# EAGLE library part LPC2468 (library motorController)
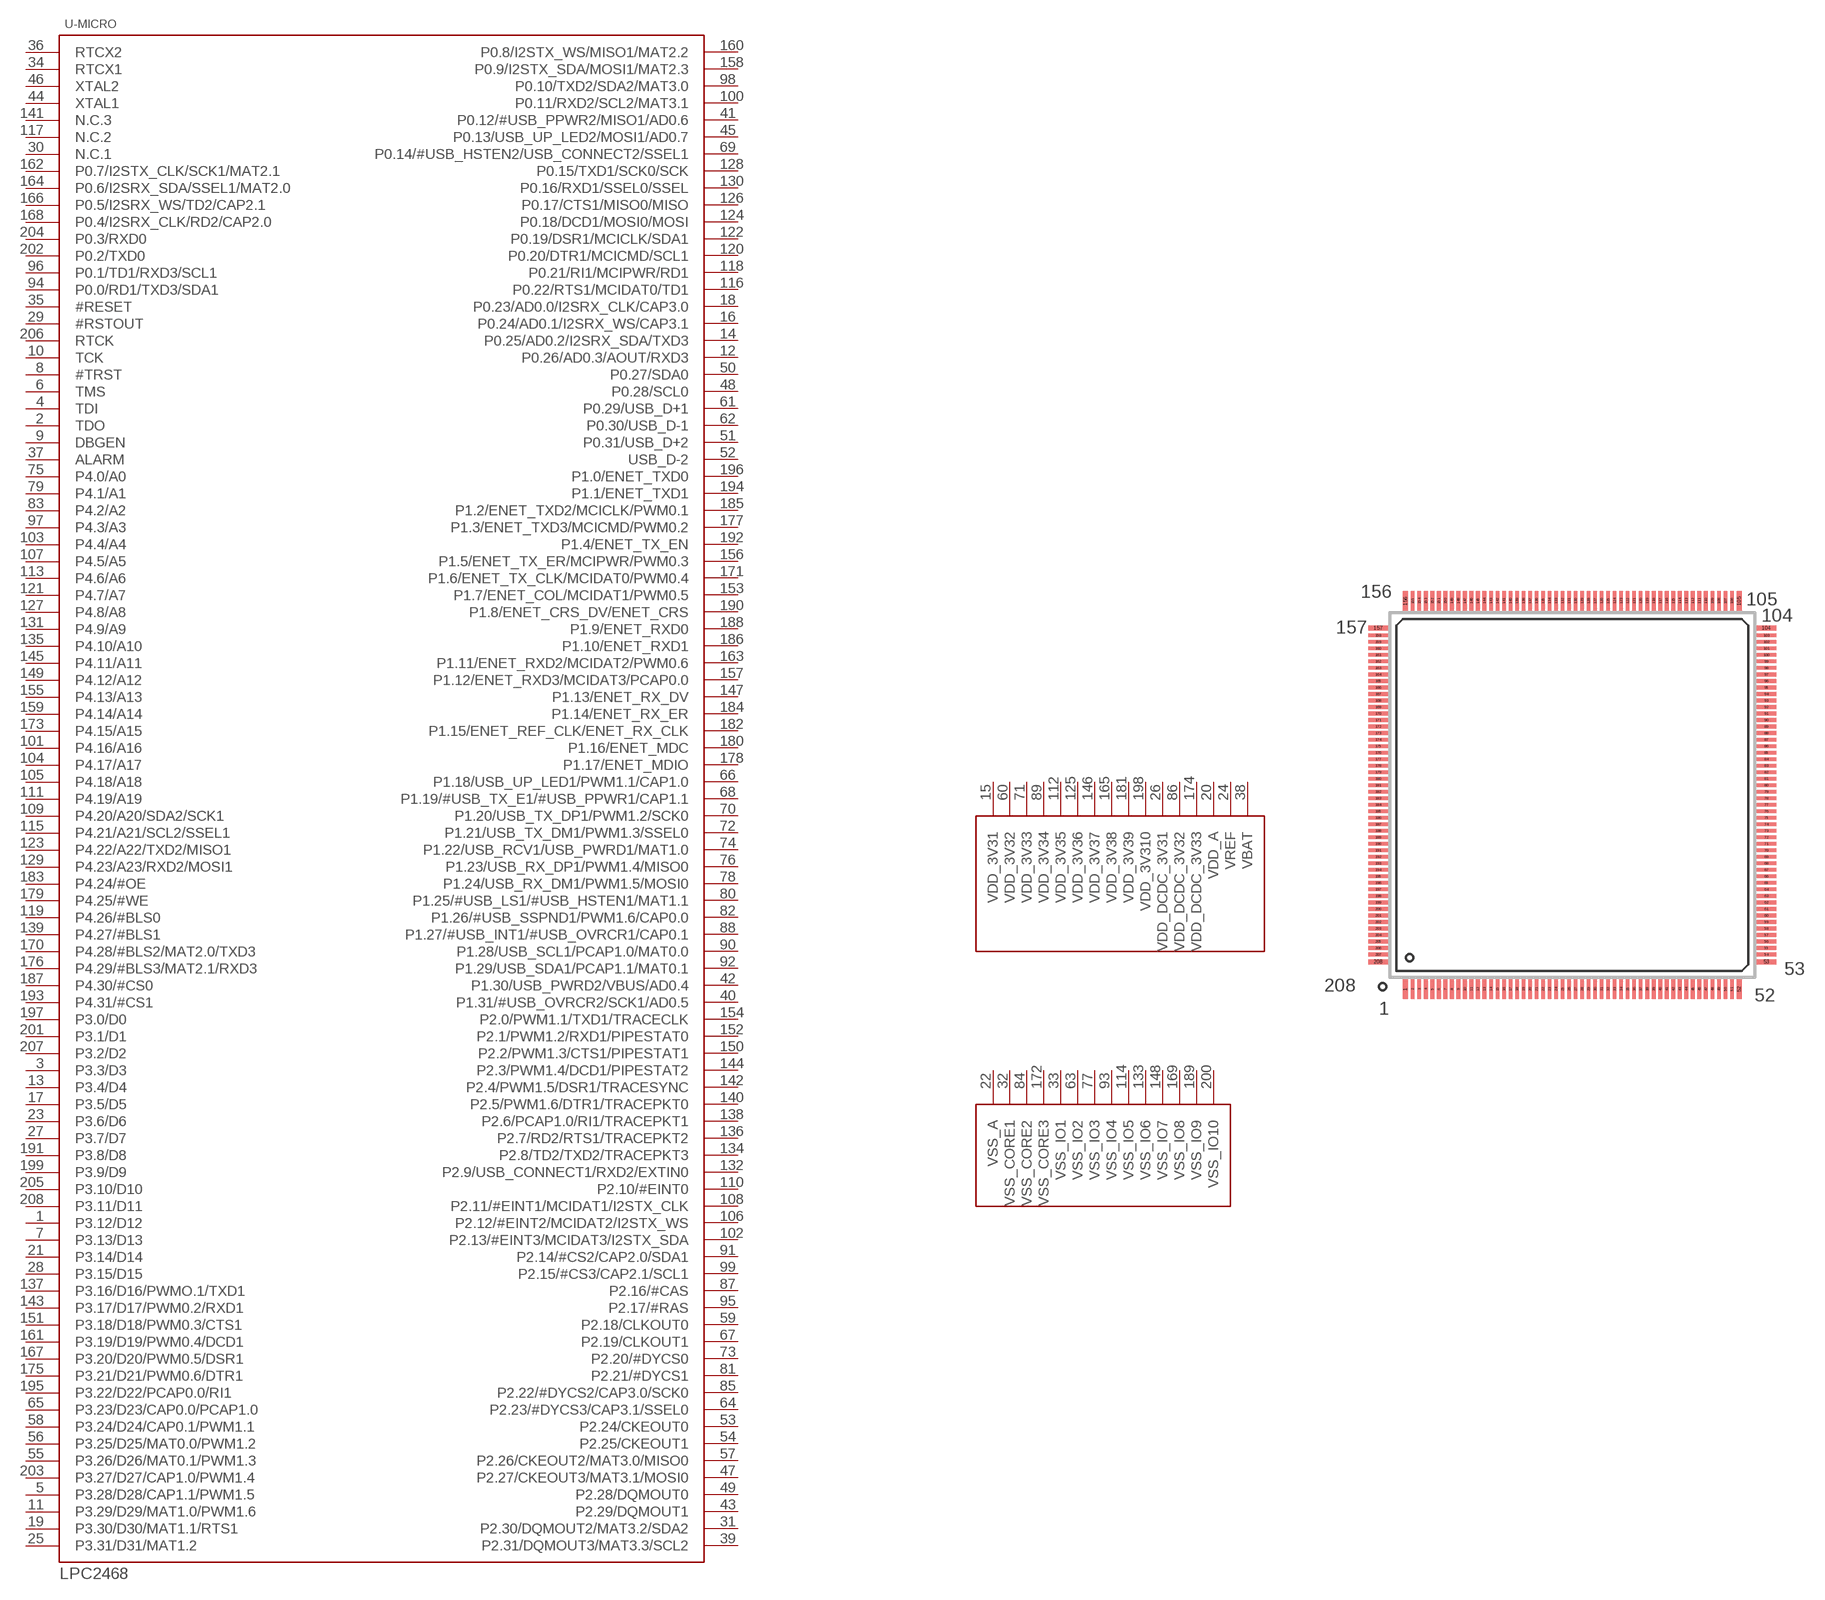
[diagram p0: symbol with the pads of SOT459-1; footprint SOT459-1]

Designator prefix U; gates -MICRO=LPC2468 POWER_HIGH=LPC2468-POWER POWER_LOW=LPC2468-GROUND

## LPC2468LPC2468  [SOT459-1]
1  -MICRO:P3.12/D12
2  -MICRO:TDO
3  -MICRO:P3.3/D3
4  -MICRO:TDI
5  -MICRO:P3.28/D28/CAP1.1/PWM1.5
6  -MICRO:TMS
7  -MICRO:P3.13/D13
8  -MICRO:#TRST
9  -MICRO:DBGEN
10  -MICRO:TCK
11  -MICRO:P3.29/D29/MAT1.0/PWM1.6
12  -MICRO:P0.26/AD0.3/AOUT/RXD3
13  -MICRO:P3.4/D4
14  -MICRO:P0.25/AD0.2/I2SRX_SDA/TXD3
15  POWER_HIGH:VDD_3V31  pwr
16  -MICRO:P0.24/AD0.1/I2SRX_WS/CAP3.1
17  -MICRO:P3.5/D5
18  -MICRO:P0.23/AD0.0/I2SRX_CLK/CAP3.0
19  -MICRO:P3.30/D30/MAT1.1/RTS1
20  POWER_HIGH:VDD_A  pwr
21  -MICRO:P3.14/D14
22  POWER_LOW:VSS_A  pwr
23  -MICRO:P3.6/D6
24  POWER_HIGH:VREF  pwr
25  -MICRO:P3.31/D31/MAT1.2
26  POWER_HIGH:VDD_DCDC_3V31  pwr
27  -MICRO:P3.7/D7
28  -MICRO:P3.15/D15
29  -MICRO:#RSTOUT
30  -MICRO:N.C.1  nc
31  -MICRO:P2.30/DQMOUT2/MAT3.2/SDA2
32  POWER_LOW:VSS_CORE1  pwr
33  POWER_LOW:VSS_IO1  pwr
34  -MICRO:RTCX1
35  -MICRO:#RESET
36  -MICRO:RTCX2
37  -MICRO:ALARM
38  POWER_HIGH:VBAT  pwr
39  -MICRO:P2.31/DQMOUT3/MAT3.3/SCL2
40  -MICRO:P1.31/#USB_OVRCR2/SCK1/AD0.5
41  -MICRO:P0.12/#USB_PPWR2/MISO1/AD0.6
42  -MICRO:P1.30/USB_PWRD2/VBUS/AD0.4
43  -MICRO:P2.29/DQMOUT1
44  -MICRO:XTAL1
45  -MICRO:P0.13/USB_UP_LED2/MOSI1/AD0.7
46  -MICRO:XTAL2
47  -MICRO:P2.27/CKEOUT3/MAT3.1/MOSI0
48  -MICRO:P0.28/SCL0
49  -MICRO:P2.28/DQMOUT0
50  -MICRO:P0.27/SDA0
51  -MICRO:P0.31/USB_D+2
52  -MICRO:USB_D-2
53  -MICRO:P2.24/CKEOUT0
54  -MICRO:P2.25/CKEOUT1
55  -MICRO:P3.26/D26/MAT0.1/PWM1.3
56  -MICRO:P3.25/D25/MAT0.0/PWM1.2
57  -MICRO:P2.26/CKEOUT2/MAT3.0/MISO0
58  -MICRO:P3.24/D24/CAP0.1/PWM1.1
59  -MICRO:P2.18/CLKOUT0
60  POWER_HIGH:VDD_3V32  pwr
61  -MICRO:P0.29/USB_D+1
62  -MICRO:P0.30/USB_D-1
63  POWER_LOW:VSS_IO2  pwr
64  -MICRO:P2.23/#DYCS3/CAP3.1/SSEL0
65  -MICRO:P3.23/D23/CAP0.0/PCAP1.0
66  -MICRO:P1.18/USB_UP_LED1/PWM1.1/CAP1.0
67  -MICRO:P2.19/CLKOUT1
68  -MICRO:P1.19/#USB_TX_E1/#USB_PPWR1/CAP1.1
69  -MICRO:P0.14/#USB_HSTEN2/USB_CONNECT2/SSEL1
70  -MICRO:P1.20/USB_TX_DP1/PWM1.2/SCK0
71  POWER_HIGH:VDD_3V33  pwr
72  -MICRO:P1.21/USB_TX_DM1/PWM1.3/SSEL0
73  -MICRO:P2.20/#DYCS0
74  -MICRO:P1.22/USB_RCV1/USB_PWRD1/MAT1.0
75  -MICRO:P4.0/A0
76  -MICRO:P1.23/USB_RX_DP1/PWM1.4/MISO0
77  POWER_LOW:VSS_IO3  pwr
78  -MICRO:P1.24/USB_RX_DM1/PWM1.5/MOSI0
79  -MICRO:P4.1/A1
80  -MICRO:P1.25/#USB_LS1/#USB_HSTEN1/MAT1.1
81  -MICRO:P2.21/#DYCS1
82  -MICRO:P1.26/#USB_SSPND1/PWM1.6/CAP0.0
83  -MICRO:P4.2/A2
84  POWER_LOW:VSS_CORE2  pwr
85  -MICRO:P2.22/#DYCS2/CAP3.0/SCK0
86  POWER_HIGH:VDD_DCDC_3V32  pwr
87  -MICRO:P2.16/#CAS
88  -MICRO:P1.27/#USB_INT1/#USB_OVRCR1/CAP0.1
89  POWER_HIGH:VDD_3V34  pwr
90  -MICRO:P1.28/USB_SCL1/PCAP1.0/MAT0.0
91  -MICRO:P2.14/#CS2/CAP2.0/SDA1
92  -MICRO:P1.29/USB_SDA1/PCAP1.1/MAT0.1
93  POWER_LOW:VSS_IO4  pwr
94  -MICRO:P0.0/RD1/TXD3/SDA1
95  -MICRO:P2.17/#RAS
96  -MICRO:P0.1/TD1/RXD3/SCL1
97  -MICRO:P4.3/A3
98  -MICRO:P0.10/TXD2/SDA2/MAT3.0
99  -MICRO:P2.15/#CS3/CAP2.1/SCL1
100  -MICRO:P0.11/RXD2/SCL2/MAT3.1
101  -MICRO:P4.16/A16
102  -MICRO:P2.13/#EINT3/MCIDAT3/I2STX_SDA
103  -MICRO:P4.4/A4
104  -MICRO:P4.17/A17
105  -MICRO:P4.18/A18
106  -MICRO:P2.12/#EINT2/MCIDAT2/I2STX_WS
107  -MICRO:P4.5/A5
108  -MICRO:P2.11/#EINT1/MCIDAT1/I2STX_CLK
109  -MICRO:P4.20/A20/SDA2/SCK1
110  -MICRO:P2.10/#EINT0
111  -MICRO:P4.19/A19
112  POWER_HIGH:VDD_3V35  pwr
113  -MICRO:P4.6/A6
114  POWER_LOW:VSS_IO5  pwr
115  -MICRO:P4.21/A21/SCL2/SSEL1
116  -MICRO:P0.22/RTS1/MCIDAT0/TD1
117  -MICRO:N.C.2  nc
118  -MICRO:P0.21/RI1/MCIPWR/RD1
119  -MICRO:P4.26/#BLS0
120  -MICRO:P0.20/DTR1/MCICMD/SCL1
121  -MICRO:P4.7/A7
122  -MICRO:P0.19/DSR1/MCICLK/SDA1
123  -MICRO:P4.22/A22/TXD2/MISO1
124  -MICRO:P0.18/DCD1/MOSI0/MOSI
125  POWER_HIGH:VDD_3V36  pwr
126  -MICRO:P0.17/CTS1/MISO0/MISO
127  -MICRO:P4.8/A8
128  -MICRO:P0.15/TXD1/SCK0/SCK
129  -MICRO:P4.23/A23/RXD2/MOSI1
130  -MICRO:P0.16/RXD1/SSEL0/SSEL
131  -MICRO:P4.9/A9
132  -MICRO:P2.9/USB_CONNECT1/RXD2/EXTIN0
133  POWER_LOW:VSS_IO6  pwr
134  -MICRO:P2.8/TD2/TXD2/TRACEPKT3
135  -MICRO:P4.10/A10
136  -MICRO:P2.7/RD2/RTS1/TRACEPKT2
137  -MICRO:P3.16/D16/PWMO.1/TXD1
138  -MICRO:P2.6/PCAP1.0/RI1/TRACEPKT1
139  -MICRO:P4.27/#BLS1
140  -MICRO:P2.5/PWM1.6/DTR1/TRACEPKT0
141  -MICRO:N.C.3  nc
142  -MICRO:P2.4/PWM1.5/DSR1/TRACESYNC
143  -MICRO:P3.17/D17/PWM0.2/RXD1
144  -MICRO:P2.3/PWM1.4/DCD1/PIPESTAT2
145  -MICRO:P4.11/A11
146  POWER_HIGH:VDD_3V37  pwr
147  -MICRO:P1.13/ENET_RX_DV
148  POWER_LOW:VSS_IO7  pwr
149  -MICRO:P4.12/A12
150  -MICRO:P2.2/PWM1.3/CTS1/PIPESTAT1
151  -MICRO:P3.18/D18/PWM0.3/CTS1
152  -MICRO:P2.1/PWM1.2/RXD1/PIPESTAT0
153  -MICRO:P1.7/ENET_COL/MCIDAT1/PWM0.5
154  -MICRO:P2.0/PWM1.1/TXD1/TRACECLK
155  -MICRO:P4.13/A13
156  -MICRO:P1.5/ENET_TX_ER/MCIPWR/PWM0.3
157  -MICRO:P1.12/ENET_RXD3/MCIDAT3/PCAP0.0
158  -MICRO:P0.9/I2STX_SDA/MOSI1/MAT2.3
159  -MICRO:P4.14/A14
160  -MICRO:P0.8/I2STX_WS/MISO1/MAT2.2
161  -MICRO:P3.19/D19/PWM0.4/DCD1
162  -MICRO:P0.7/I2STX_CLK/SCK1/MAT2.1
163  -MICRO:P1.11/ENET_RXD2/MCIDAT2/PWM0.6
164  -MICRO:P0.6/I2SRX_SDA/SSEL1/MAT2.0
165  POWER_HIGH:VDD_3V38  pwr
166  -MICRO:P0.5/I2SRX_WS/TD2/CAP2.1
167  -MICRO:P3.20/D20/PWM0.5/DSR1
168  -MICRO:P0.4/I2SRX_CLK/RD2/CAP2.0
169  POWER_LOW:VSS_IO8  pwr
170  -MICRO:P4.28/#BLS2/MAT2.0/TXD3
171  -MICRO:P1.6/ENET_TX_CLK/MCIDAT0/PWM0.4
172  POWER_LOW:VSS_CORE3  pwr
173  -MICRO:P4.15/A15
174  POWER_HIGH:VDD_DCDC_3V33  pwr
175  -MICRO:P3.21/D21/PWM0.6/DTR1
176  -MICRO:P4.29/#BLS3/MAT2.1/RXD3
177  -MICRO:P1.3/ENET_TXD3/MCICMD/PWM0.2
178  -MICRO:P1.17/ENET_MDIO
179  -MICRO:P4.25/#WE
180  -MICRO:P1.16/ENET_MDC
181  POWER_HIGH:VDD_3V39  pwr
182  -MICRO:P1.15/ENET_REF_CLK/ENET_RX_CLK
183  -MICRO:P4.24/#OE
184  -MICRO:P1.14/ENET_RX_ER
185  -MICRO:P1.2/ENET_TXD2/MCICLK/PWM0.1
186  -MICRO:P1.10/ENET_RXD1
187  -MICRO:P4.30/#CS0
188  -MICRO:P1.9/ENET_RXD0
189  POWER_LOW:VSS_IO9  pwr
190  -MICRO:P1.8/ENET_CRS_DV/ENET_CRS
191  -MICRO:P3.8/D8
192  -MICRO:P1.4/ENET_TX_EN
193  -MICRO:P4.31/#CS1
194  -MICRO:P1.1/ENET_TXD1
195  -MICRO:P3.22/D22/PCAP0.0/RI1
196  -MICRO:P1.0/ENET_TXD0
197  -MICRO:P3.0/D0
198  POWER_HIGH:VDD_3V310  pwr
199  -MICRO:P3.9/D9
200  POWER_LOW:VSS_IO10  pwr
201  -MICRO:P3.1/D1
202  -MICRO:P0.2/TXD0
203  -MICRO:P3.27/D27/CAP1.0/PWM1.4
204  -MICRO:P0.3/RXD0
205  -MICRO:P3.10/D10
206  -MICRO:RTCK
207  -MICRO:P3.2/D2
208  -MICRO:P3.11/D11

## Footprint SOT459-1 (pad centres in mm)
smd 0.4 x 1.5: 1 -12.81,-14.9; 52 12.81,-14.9; 105 12.81,14.9; 156 -12.81,14.9
smd 0.28 x 1.5: 2 -12.25,-14.9; 3 -11.75,-14.9; 4 -11.25,-14.9; 5 -10.75,-14.9; 6 -10.25,-14.9; 7 -9.75,-14.9; 8 -9.25,-14.9; 9 -8.75,-14.9; 10 -8.25,-14.9; 11 -7.75,-14.9; 12 -7.25,-14.9; 13 -6.75,-14.9; 14 -6.25,-14.9; 15 -5.75,-14.9; 16 -5.25,-14.9; 17 -4.75,-14.9; 18 -4.25,-14.9; 19 -3.75,-14.9; 20 -3.25,-14.9; 21 -2.75,-14.9; 22 -2.25,-14.9; 23 -1.75,-14.9; 24 -1.25,-14.9; 25 -0.75,-14.9; 26 -0.25,-14.9; 27 0.25,-14.9; 28 0.75,-14.9; 29 1.25,-14.9; 30 1.75,-14.9; 31 2.25,-14.9; 32 2.75,-14.9; 33 3.25,-14.9; 34 3.75,-14.9; 35 4.25,-14.9; 36 4.75,-14.9; 37 5.25,-14.9; 38 5.75,-14.9; 39 6.25,-14.9; 40 6.75,-14.9; 41 7.25,-14.9; 42 7.75,-14.9; 43 8.25,-14.9; 44 8.75,-14.9; 45 9.25,-14.9; 46 9.75,-14.9; 47 10.25,-14.9; 48 10.75,-14.9; 49 11.25,-14.9; 50 11.75,-14.9; 51 12.25,-14.9; 106 12.25,14.9; 107 11.75,14.9; 108 11.25,14.9; 109 10.75,14.9; 110 10.25,14.9; 111 9.75,14.9; 112 9.25,14.9; 113 8.75,14.9; 114 8.25,14.9; 115 7.75,14.9; 116 7.25,14.9; 117 6.75,14.9; 118 6.25,14.9; 119 5.75,14.9; 120 5.25,14.9; 121 4.75,14.9; 122 4.25,14.9; 123 3.75,14.9; 124 3.25,14.9; 125 2.75,14.9; 126 2.25,14.9; 127 1.75,14.9; 128 1.25,14.9; 129 0.75,14.9; 130 0.25,14.9; 131 -0.25,14.9; 132 -0.75,14.9; 133 -1.25,14.9; 134 -1.75,14.9; 135 -2.25,14.9; 136 -2.75,14.9; 137 -3.25,14.9; 138 -3.75,14.9; 139 -4.25,14.9; 140 -4.75,14.9; 141 -5.25,14.9; 142 -5.75,14.9; 143 -6.25,14.9; 144 -6.75,14.9; 145 -7.25,14.9; 146 -7.75,14.9; 147 -8.25,14.9; 148 -8.75,14.9; 149 -9.25,14.9; 150 -9.75,14.9; 151 -10.25,14.9; 152 -10.75,14.9; 153 -11.25,14.9; 154 -11.75,14.9; 155 -12.25,14.9
smd 1.5 x 0.4: 53 14.9,-12.81; 104 14.9,12.81; 157 -14.9,12.81; 208 -14.9,-12.81
smd 1.5 x 0.28: 54 14.9,-12.25; 55 14.9,-11.75; 56 14.9,-11.25; 57 14.9,-10.75; 58 14.9,-10.25; 59 14.9,-9.75; 60 14.9,-9.25; 61 14.9,-8.75; 62 14.9,-8.25; 63 14.9,-7.75; 64 14.9,-7.25; 65 14.9,-6.75; 66 14.9,-6.25; 67 14.9,-5.75; 68 14.9,-5.25; 69 14.9,-4.75; 70 14.9,-4.25; 71 14.9,-3.75; 72 14.9,-3.25; 73 14.9,-2.75; 74 14.9,-2.25; 75 14.9,-1.75; 76 14.9,-1.25; 77 14.9,-0.75; 78 14.9,-0.25; 79 14.9,0.25; 80 14.9,0.75; 81 14.9,1.25; 82 14.9,1.75; 83 14.9,2.25; 84 14.9,2.75; 85 14.9,3.25; 86 14.9,3.75; 87 14.9,4.25; 88 14.9,4.75; 89 14.9,5.25; 90 14.9,5.75; 91 14.9,6.25; 92 14.9,6.75; 93 14.9,7.25; 94 14.9,7.75; 95 14.9,8.25; 96 14.9,8.75; 97 14.9,9.25; 98 14.9,9.75; 99 14.9,10.25; 100 14.9,10.75; 101 14.9,11.25; 102 14.9,11.75; 103 14.9,12.25; 158 -14.9,12.25; 159 -14.9,11.75; 160 -14.9,11.25; 161 -14.9,10.75; 162 -14.9,10.25; 163 -14.9,9.75; 164 -14.9,9.25; 165 -14.9,8.75; 166 -14.9,8.25; 167 -14.9,7.75; 168 -14.9,7.25; 169 -14.9,6.75; 170 -14.9,6.25; 171 -14.9,5.75; 172 -14.9,5.25; 173 -14.9,4.75; 174 -14.9,4.25; 175 -14.9,3.75; 176 -14.9,3.25; 177 -14.9,2.75; 178 -14.9,2.25; 179 -14.9,1.75; 180 -14.9,1.25; 181 -14.9,0.75; 182 -14.9,0.25; 183 -14.9,-0.25; 184 -14.9,-0.75; 185 -14.9,-1.25; 186 -14.9,-1.75; 187 -14.9,-2.25; 188 -14.9,-2.75; 189 -14.9,-3.25; 190 -14.9,-3.75; 191 -14.9,-4.25; 192 -14.9,-4.75; 193 -14.9,-5.25; 194 -14.9,-5.75; 195 -14.9,-6.25; 196 -14.9,-6.75; 197 -14.9,-7.25; 198 -14.9,-7.75; 199 -14.9,-8.25; 200 -14.9,-8.75; 201 -14.9,-9.25; 202 -14.9,-9.75; 203 -14.9,-10.25; 204 -14.9,-10.75; 205 -14.9,-11.25; 206 -14.9,-11.75; 207 -14.9,-12.25